# Altium integrated library LARIX_V5.IntLib: 39 symbols
Pins are listed as number, name and electrical type; pins without a type are passive.

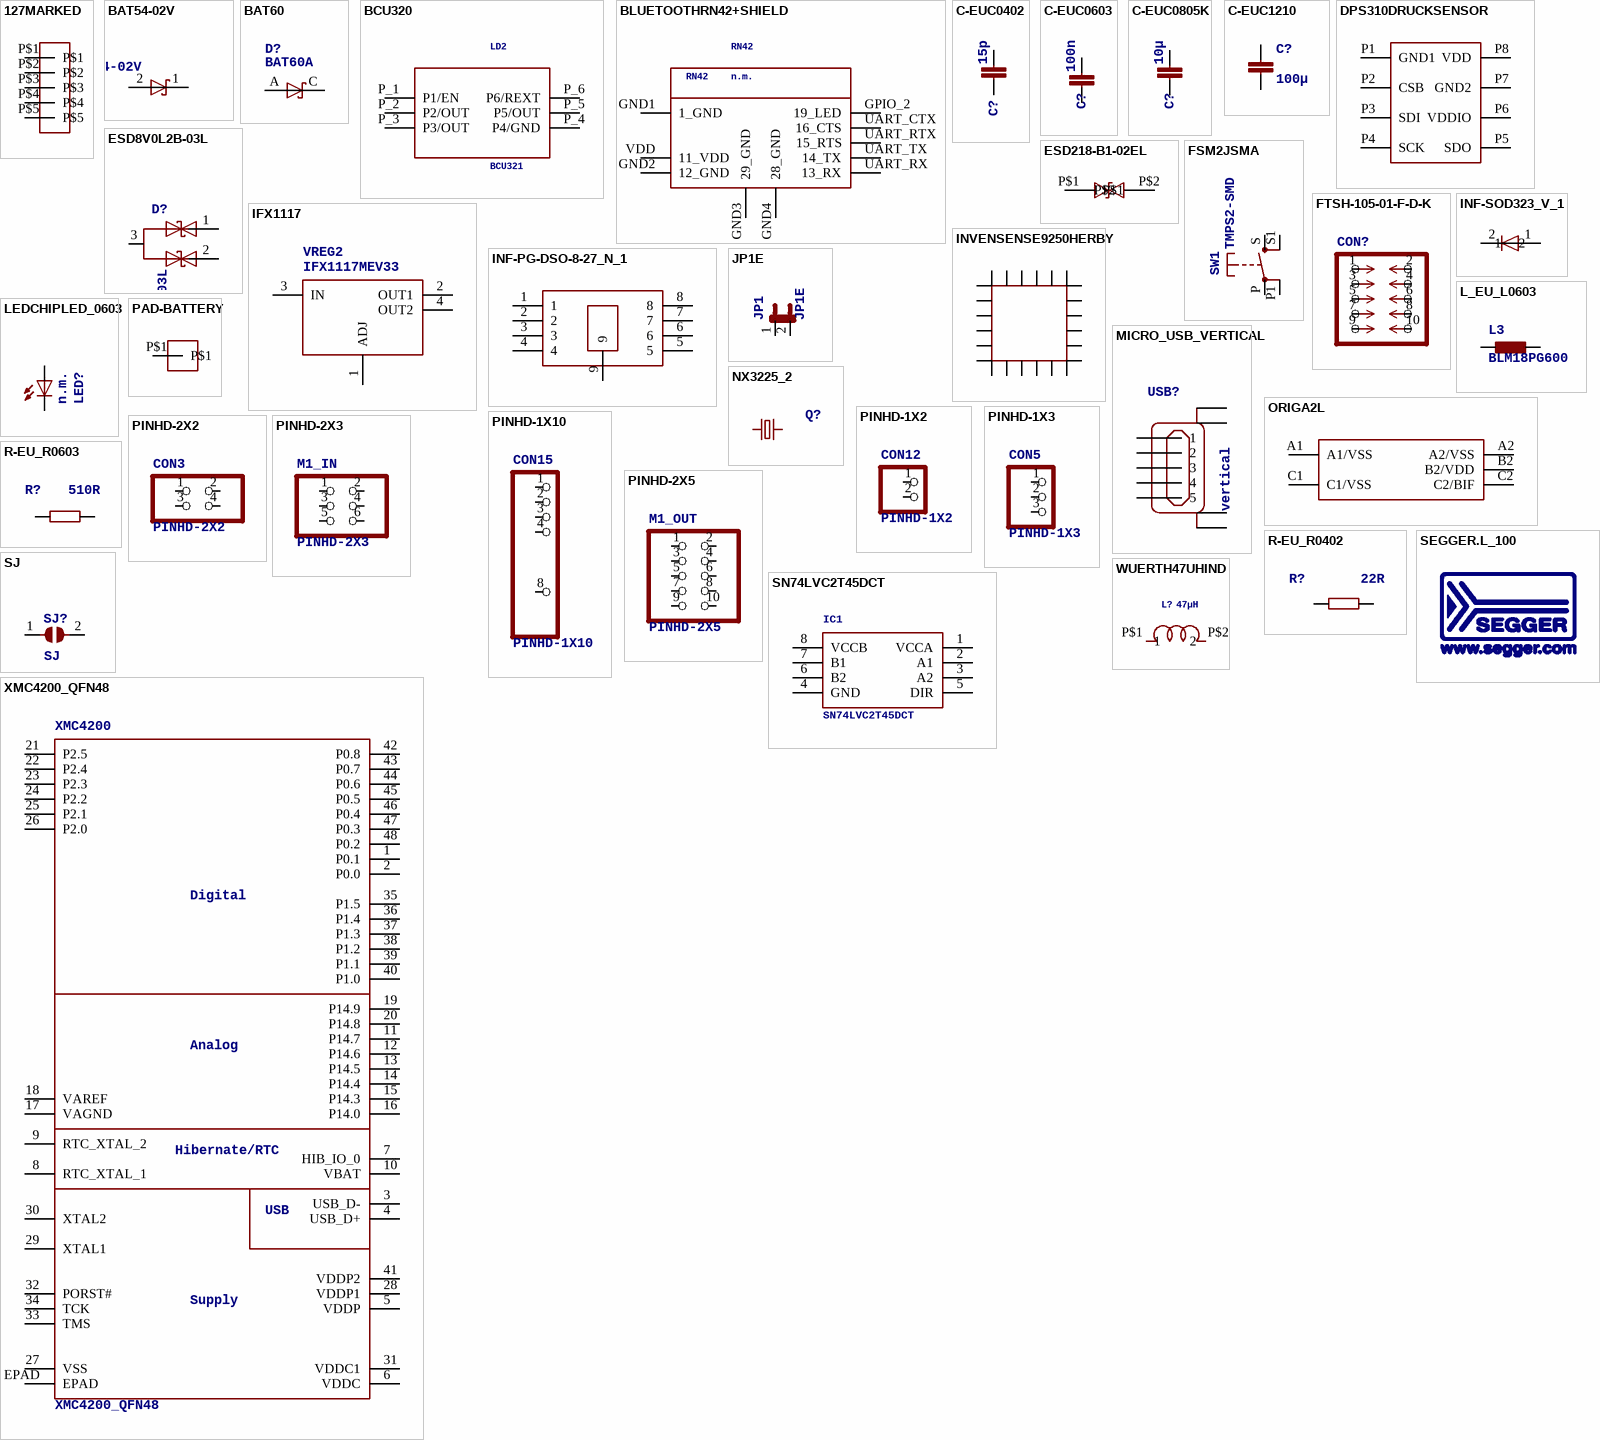
[diagram p0: symbols 127MARKED to XMC4200_QFN48]

## 127MARKED
designator U$?  (value not drawn)
footprint PINHEAD_127
pins: P$1, P$2, P$3, P$4, P$5

## BAT54-02V
designator D?
footprint SC79
pins: 1 C, 2 A

## BAT60
designator D?, comment BAT60A
footprint SOD323-R
pins: A, C

## BCU320
designator LD?, comment >NAME: LD2  (hidden comment: BCU321)
>VALUE: BCU321
footprint SC74
pins: P_1 P1/EN, P_2 P2/OUT, P_3 P3/OUT, P_4 P4/GND, P_5 P5/OUT, P_6 P6/REXT

## BLUETOOTHRN42+SHIELD
designator RN?, comment >NAME: RN42  (hidden comment: n.m.)
RN42: RN42; >VALUE: n.m.
footprint RN42+SHIELD
pins: GND1 1_GND, GND2 12_GND, GND3 29_GND, GND4 28_GND, GPIO_2 19_LED, UART_CTX 16_CTS, UART_RTX 15_RTS, UART_RX 13_RX, UART_TX 14_TX, VDD 11_VDD

## C-EUC0402
designator C?, comment 15p
footprint C0402
pins: 1, 2

## C-EUC0603
designator C?, comment 100n
<B>CAPACITOR</B>, European symbol
footprint C0603
pins: 1, 2

## C-EUC0805K
designator C?, comment 10µ
<B>CAPACITOR</B>, European symbol
footprint C0805K
pins: 1, 2

## C-EUC1210
designator C?, comment 100µ
<B>CAPACITOR</B>, European symbol
footprint C1210
pins: 1, 2

## DPS310DRUCKSENSOR
designator DPS?, comment Infineon  (value not drawn)
footprint LGA8R125P0X4_500X300X120
pins: P1 GND1, P2 CSB, P3 SDI, P4 SCK, P5 SDO, P6 VDDIO, P7 GND2, P8 VDD

## ESD8V0L2B-03L
designator D?
footprint TSLP-3-1
pins: 1, 2, 3

## ESD218-B1-02EL
designator D?  (value not drawn)
footprint TSLP-2-20
pins: P$1, P$2

## FSM2JSMA
designator SW?, comment >NAME: SW1  (hidden comment: TMPS2-SMD)
>VALUE: TMPS2-SMD
footprint FSM2JSMA
pins: P, P1 P, S, S1 S

## FTSH-105-01-F-D-K
designator CON?  (value not drawn)
footprint FTSH-105-01-F-D-K
pins: 1, 2, 3, 4, 5, 6, 7, 8, 9, 10

## IFX1117
designator VREG?, comment >NAME: VREG2  (hidden comment: IFX1117MEV33)
>VALUE: IFX1117MEV33
footprint SOT223
pins: 1 ADJ (power), 2 OUT1 (power), 3 IN (power), 4 OUT2 (power)

## INF-PG-DSO-8-27_N_1
designator VREG?, comment IFX91041V50  (value not drawn)
footprint INF-PG-DSO-8-27_N_1PRIMARY
pins: 1, 2, 3, 4, 5, 6, 7, 8, 9

## INF-SOD323_V_1
designator D?, comment BAS21-03W  (value not drawn)
footprint INF-SOD323_V_1PRIMARY
pins: 1, 2

## INVENSENSE9250HERBY
designator MPU?, comment MPU9250  (value not drawn)
Herbys Model of a invensense 9250
footprint QFN3X3-24+
pins: 1, 2, 3, 4, 5, 6, 7, 8, 9, 10, 11, 12, 13, 14, 15, 16, 17, 18, 19, 20, 21, 22, 23, 24

## JP1E
designator JP?  >NAME: JP1  (hidden comment: JP1E)
<b>JUMPER</b>; >VALUE: JP1E
footprint JP1
pins: 1, 2

## L_EU_L0603
designator L?, comment >NAME: L3  (hidden comment: BLM18PG600)
>VALUE: BLM18PG600
footprint L1608
pins: 1, 2

## LEDCHIPLED_0603
designator LED?, comment n.m.
<b>LED</b><p> / <u>OSRAM</u>:<br> / - <u>CHIPLED</u><br> / LG R971, LG N971, LY N971, LG Q971, LY Q971, LO R971, LY R971 / LH N974, LH R974<br> / LS Q976, LO Q976, LY Q976<br> / LO Q996<br> / - <u>Hyper CHIPLED</u><br> / LW Q18S<br> / LB Q993, LB Q99A, LB R99A<br> / - <u>SideLED</u><br> / LS A670, LO A670, LY A670, LG A670, LP A670<br> / LB A673, LV A673, LT A673, LW A673<br> / LH A674<br> / LY A675<br> / LS A676, LA A676, LO A676, LY A676, LW A676<br> / LS A679, LY A679, LG A679<br> / -  <u>Hyper Micro SIDELED®</u><br> / LS Y876, LA Y876, LO Y876, LY Y876<br> / LT Y87S<br> / - <u>SmartLED</u><br> / LW L88C, LW L88S<br> / LB L89C, LB L89S, LG L890<br> / LS L89K, LO L89K, LY L89K<br> / LS L896, LA L896, LO L896, LY L896<br> / - <u>TOPLED</u><br> / LS T670, LO T670, LY T670, LG T670, LP T670<br> / LSG T670, LSP T670, LSY T670, LOP T670, LYG T670<br> / LG T671, LOG T671, LSG T671<br> / LB T673, LV T673, LT T673, LW T673<br> / LH T674<br> / LS T676, LA T676, LO T676, LY T676, LB T676, LH T676, LSB T676, LW T676<br> / LB T67C, LV T67C, LT T67C, LS T67K, LO T67K, LY T67K, LW E67C<br> / LS E67B, LA E67B, LO E67B, LY E67B, LB E67C, LV E67C, LT E67C<br> / LW T67C<br> / LS T679, LY T679, LG T679<br> / LS T770, LO T770, LY T770, LG T770, LP T770<br> / LB T773, LV T773, LT T773, LW T773<br> / LH T774<br> / LS E675, LA E675, LY E675, LS T675<br> / LS T776, LA T776, LO T776, LY T776, LB T776<br> / LHGB T686<br> / LT T68C, LB T68C<br> / - <u>Hyper Mini TOPLED®</u><br> / LB M676<br> / - <u>Mini TOPLED Santana®</u><br> / LG M470<br> / LS M47K, LO M47K, LY M47K<br> / <p> / Source: http://www.osram.convergy.de/
footprint CHIPLED_0603
pins: A, C

## MICRO_USB_VERTICAL
designator USB?, comment vertical
footprint USBVERTICAL
pins: 1, 2, 3+ 3, 4, 5, P$1 PGH1, P$2 PGH2, P$3 PGH3, P$4 PGH4

## NX3225_2
designator Q?, comment 12MHZ/S/3.2X2.5  (value not drawn)
footprint 32X25_4PAD
pins: 1, 3 2

## ORIGA2L
designator ORIGA?  (value not drawn)
footprint WLB-5
pins: A1 A1/VSS, A2 A2/VSS, B2 B2/VDD, C1 C1/VSS, C2 C2/BIF

## PAD-BATTERY
designator PAD?  (value not drawn)
footprint BATT-SOLDER
pins: P$1

## PINHD-1X2
designator CON?  >NAME: CON12  (hidden comment: PINHD-1X2)
<b>PIN HEADER</b>; >VALUE: PINHD-1X2
footprint 1X02
pins: 1, 2

## PINHD-1X3
designator CON?  >NAME: CON5  (hidden comment: PINHD-1X3)
<b>PIN HEADER</b>; >VALUE: PINHD-1X3
footprint 1X03
pins: 1, 2, 3

## PINHD-1X10
designator CON?  >NAME: CON15  (hidden comment: PINHD-1X10)
<b>PIN HEADER</b>; >VALUE: PINHD-1X10
footprint 1X10
pins: 1, 2, 3, 4, 8

## PINHD-2X2
designator CON?  >NAME: CON3  (hidden comment: PINHD-2X2)
<b>PIN HEADER</b>; >VALUE: PINHD-2X2
footprint 2X02
pins: 1, 2, 3, 4

## PINHD-2X3
designator M1_IN?  >NAME: M1_IN  (hidden comment: PINHD-2X3)
<b>PIN HEADER</b>; >VALUE: PINHD-2X3
footprint 2X03
pins: 1, 2, 3, 4, 5, 6

## PINHD-2X5
designator M1_OUT?  >NAME: M1_OUT  (hidden comment: PINHD-2X5)
<b>PIN HEADER</b>; >VALUE: PINHD-2X5
footprint 2X05
pins: 1, 2, 3, 4, 5, 6, 7, 8, 9, 10

## R-EU_R0402
designator R?, comment 22R
footprint R0402
pins: 1, 2

## R-EU_R0603
designator R?, comment 510R
footprint R0603
pins: 1, 2

## SEGGER.L_100
designator U$?  (value not drawn)
footprint LOGO_100

## SJ
designator SJ?
SMD solder <b>JUMPER</b>
footprint SJ
pins: 1, 2

## SN74LVC2T45DCT
designator IC?  >NAME: IC1  (hidden comment: SN74LVC2T45DCT)
>VALUE: SN74LVC2T45DCT
footprint DCT_R-PDSO-G8
pins: 1 VCCA, 2 A1, 3 A2, 4 GND, 5 DIR, 6 B2, 7 B1, 8 VCCB

## WUERTH47UHIND
designator L?, comment 47µH
footprint WE-TPC
pins: P$1 1, P$2 2

## XMC4200_QFN48
designator XMC?  >NAME: XMC4200  (hidden comment: XMC4200_QFN48)
>VALUE: XMC4200_QFN48; USB: USB; Supply: Supply; Analog: Analog; Digital: Digital; Hibernate/RTC: Hibernate/RTC
footprint QFN-48-7X7
pins: 1 P0.1, 2 P0.0, 3 USB_D-, 4 USB_D+, 5 VDDP, 6 VDDC, 7 HIB_IO_0, 8 RTC_XTAL_1, 9 RTC_XTAL_2, 10 VBAT, 11 P14.7, 12 P14.6, 13 P14.5, 14 P14.4, 15 P14.3, 16 P14.0, 17 VAGND, 18 VAREF, 19 P14.9, 20 P14.8, 21 P2.5, 22 P2.4, 23 P2.3, 24 P2.2, 25 P2.1, 26 P2.0, 27 VSS, 28 VDDP1, 29 XTAL1, 30 XTAL2, 31 VDDC1, 32 PORST#, 33 TMS, 34 TCK, 35 P1.5, 36 P1.4, 37 P1.3, 38 P1.2, 39 P1.1, 40 P1.0, 41 VDDP2, 42 P0.8, 43 P0.7, 44 P0.6, 45 P0.5, 46 P0.4, 47 P0.3, 48 P0.2, EPAD

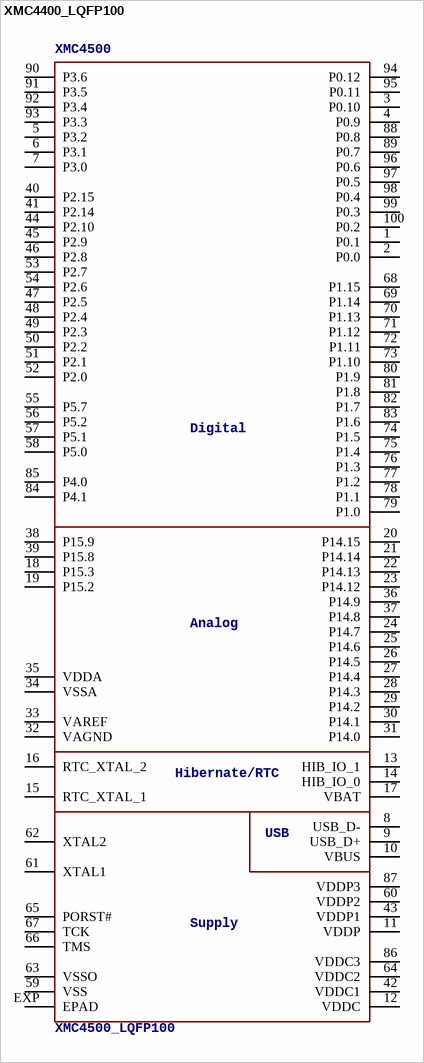
[diagram p1: symbol XMC4400_LQFP100]

## XMC4400_LQFP100
designator XMC?, comment >NAME: XMC4500  (hidden comment: XMC4500_LQFP100)
>VALUE: XMC4500_LQFP100; USB: USB; Supply: Supply; Analog: Analog; Digital: Digital; Hibernate/RTC: Hibernate/RTC
footprint P/PG-LQFP-100-11
pins: 1 P0.1, 2 P0.0, 3 P0.10, 4 P0.9, 5 P3.2, 6 P3.1, 7 P3.0, 8 USB_D-, 9 USB_D+, 10 VBUS, 11 VDDP, 12 VDDC, 13 HIB_IO_1, 14 HIB_IO_0, 15 RTC_XTAL_1, 16 RTC_XTAL_2, 17 VBAT, 18 P15.3, 19 P15.2, 20 P14.15, 21 P14.14, 22 P14.13, 23 P14.12, 24 P14.7, 25 P14.6, 26 P14.5, 27 P14.4, 28 P14.3, 29 P14.2, 30 P14.1, 31 P14.0, 32 VAGND, 33 VAREF, 34 VSSA, 35 VDDA, 36 P14.9, 37 P14.8, 38 P15.9, 39 P15.8, 40 P2.15, 41 P2.14, 42 VDDC1, 43 VDDP1, 44 P2.10, 45 P2.9, 46 P2.8, 47 P2.5, 48 P2.4, 49 P2.3, 50 P2.2, 51 P2.1, 52 P2.0, 53 P2.7, 54 P2.6, 55 P5.7, 56 P5.2, 57 P5.1, 58 P5.0, 59 VSS, 60 VDDP2, 61 XTAL1, 62 XTAL2, 63 VSSO, 64 VDDC2, 65 PORST#, 66 TMS, 67 TCK, 68 P1.15, 69 P1.14, 70 P1.13, 71 P1.12, 72 P1.11, 73 P1.10, 74 P1.5, 75 P1.4, 76 P1.3, 77 P1.2, 78 P1.1, 79 P1.0, 80 P1.9, 81 P1.8, 82 P1.7, 83 P1.6, 84 P4.1, 85 P4.0, 86 VDDC3, 87 VDDP3, 88 P0.8, 89 P0.7, 90 P3.6, 91 P3.5, 92 P3.4, 93 P3.3, 94 P0.12, 95 P0.11, 96 P0.6, 97 P0.5, 98 P0.4, 99 P0.3, 100 P0.2, EXP EPAD